# Altium schematic symbol library BQ24074RGTR.SchLib: 1 symbol
Pins are listed as number, name and electrical type; pins without a type are passive.

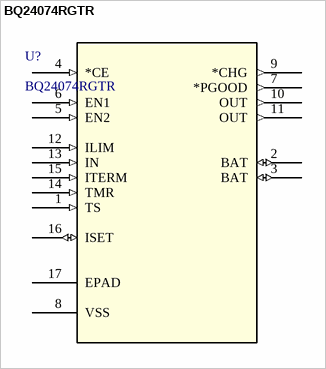
[diagram p0: symbol BQ24074RGTR]

## BQ24074RGTR
designator U?
Standalone 1-cell 1.5-A linear battery charger, Power Path, 4.2-V VBAT, 10.5-V OVP and 4.4-V VOUT 16-VQFN -40 to 85; Manufacturer_Name: Texas Instruments; Copyright: Copyright (C) 2026 Ultra Librarian. All rights reserved.; Manufacturer_Part_Number: BQ24074RGTR; RefDes: RefDes; Type: Type
footprint RGT16_1P7X1P7
pins: 1 TS (in), 2 BAT (io), 3 BAT (io), 4 *CE (in), 5 EN2 (in), 6 EN1 (in), 7 *PGOOD (out), 8 VSS (power), 9 *CHG (out), 10 OUT (out), 11 OUT (out), 12 ILIM (in), 13 IN (in), 14 TMR (in), 15 ITERM (in), 16 ISET (io), 17 EPAD (power)